# EAGLE library part T4141012121-000 (library T4141012121-000)
Body Features: Environmental Protection IP67 | Shell Plating Material Nickel | Shell Base Material Brass | Circular Connector Insulation Material Type Polyamide 66 GF25 | O-Ring Material Silicone | Peripheral Seal Material Silicone | Environmental Protection Type Elastomer Sealed | Configuration Features: Contacts Preloaded Yes | Keying A | Number of Positions 12 | Number of Power Positions 0 | Keying & Polarized Position Locations A | Number of Signal Positions 12 | Factory Installed Backshell No | Contact Source: Datasheet <https://www.te.com/commerce/DocumentDelivery/DDEController?Action=srchrtrv&DocNm=1-773955-5&DocType=Data Sheet&DocLang=English&PartCntxt=T4141012121-000&DocFormat=pdf>
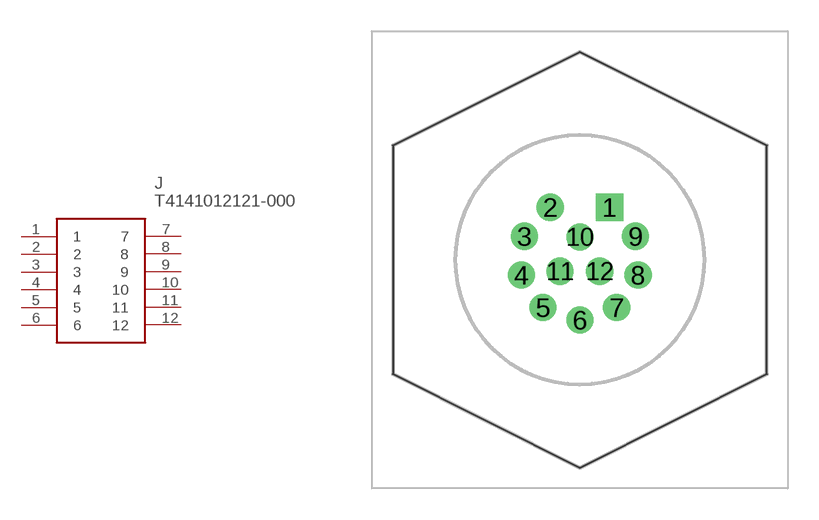
[diagram p0: symbol with the pads of T4140012121000; footprint T4140012121000]

Designator prefix J

## T4141012121-000 (Description: Body Features: Environmental Protection IP67 | Shell Plating Material Nickel | Shell Base Material Brass | Circular Connector Insulation Material Type Polyamide 66 GF25 | O-Ring Material Silicone | Peripheral Seal Material Silicone | Environmental Protection Type Elastomer Sealed | Configuration Features: Contacts Preloaded Yes | Keying A | Number of Positions 12 | Number of Power Positions 0 | Keying & Polarized Position Locations A | Number of Signal Positions 12 | Factory Installed Backshell No | Contact; Height: 20mm; Manufacturer_Name: TE Connectivity; Manufacturer_Part_Number: T4141012121-000)  [T4140012121000]
1  1
2  2
3  3
4  4
5  5
6  6
7  7
8  8
9  9
10  10
11  11
12  12

## Footprint T4140012121000 (pad centres in mm)
T4140012121-000-1
drill 0.8 pad 1.3 square: 1 0,0
drill 0.8 pad 1.3: 2 -2.856,0; 3 -4.1,-1.397; 4 -4.232,-3.262; 5 -3.198,-4.821; 6 -1.428,-5.424; 7 0.342,-4.821; 8 1.376,-3.262; 9 1.244,-1.397; 10 -1.428,-1.424; 11 -2.381,-3.074; 12 -0.475,-3.074